# EAGLE library part XMC1000-24 (library INF-XMC)
XMC1100 series 24 pin
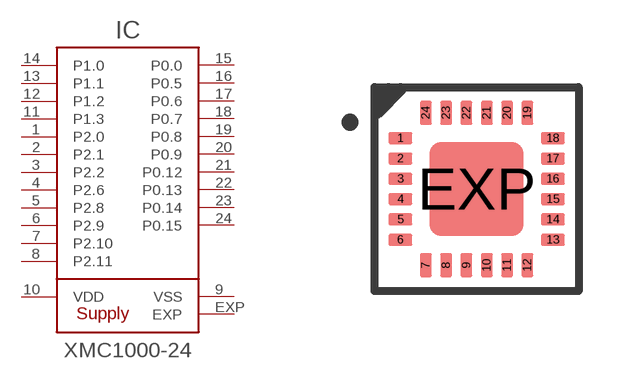
[diagram p4: symbol with the pads of QFN-24; footprint QFN-24]

Designator prefix IC

## XMC1000-24VFN  [QFN-24]
1  P2.0
2  P2.1
3  P2.2
4  P2.6
5  P2.8
6  P2.9
7  P2.10
8  P2.11
9  VSS  pwr
10  VDD  pwr
11  P1.3
12  P1.2
13  P1.1
14  P1.0
15  P0.0
16  P0.5
17  P0.6
18  P0.7
19  P0.8
20  P0.9
21  P0.12
22  P0.13
23  P0.14
24  P0.15
EXP  EXP  pwr

## Footprint QFN-24 (pad centres in mm)
QFN 4x4 mm
smd 0.6 x 0.3: 1 -1.905,1.27; 2 -1.905,0.762; 3 -1.905,0.254; 4 -1.905,-0.254; 5 -1.905,-0.762; 6 -1.905,-1.27; 13 1.905,-1.27; 14 1.905,-0.762; 15 1.905,-0.254; 16 1.905,0.254; 17 1.905,0.762; 18 1.905,1.27
smd 0.3 x 0.6: 7 -1.27,-1.905; 8 -0.762,-1.905; 9 -0.254,-1.905; 10 0.254,-1.905; 11 0.762,-1.905; 12 1.27,-1.905; 19 1.27,1.905; 20 0.762,1.905; 21 0.254,1.905; 22 -0.254,1.905; 23 -0.762,1.905; 24 -1.27,1.905
smd 2.35 x 2.35: EXP 0,0